# Altium footprint library PcbLib3.PcbLib: 23 footprints (part 1 of 2)
Each footprint in its own frame and in the unit in brackets; x right, y up, seen from the top. Pads: shape width x height; smd on the part's side, far side on the other; paste and mask are expansions set on the pad; w line width, h text height; cw(c..) or ccw(c..) is an arc to the next point about the centre after c.
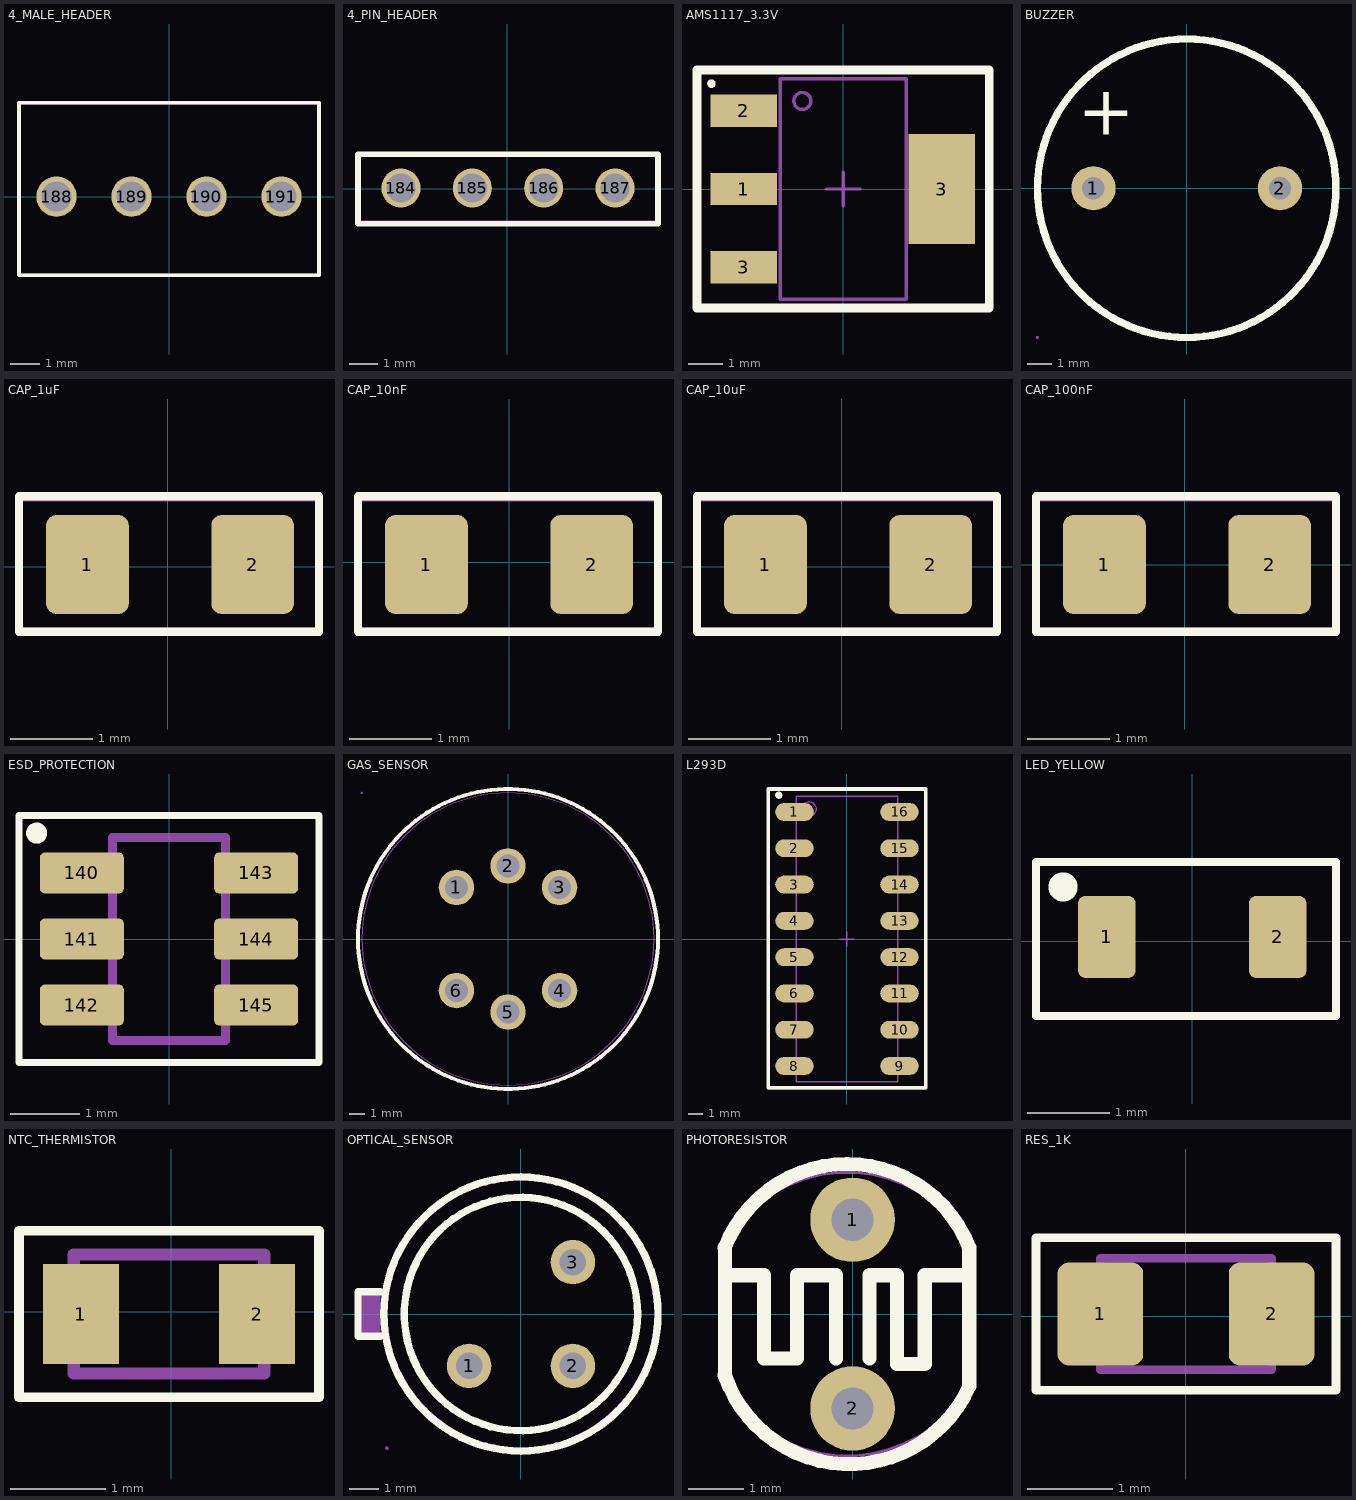
[diagram p0: the footprints below, top view; thin cyan lines are the x and y axes]

## 4_MALE_HEADER [mm]
pads (4):
  round 1.37 hole 1.02: 188(-3.81,0) 189(-1.27,0) 190(1.27,0) 191(3.81,0)
Top Overlay:
  lines w0.127: -5.08,-2.667 5.08,-2.667 5.08,3.18 -5.08,3.18 -5.08,-2.667
Top 3D Body:
  lines w0.127: -5.08,-2.54 -5.08,3.18 ; 5.08,-2.54 5.08,3.18 ; -5.08,3.18 5.08,3.18 ; -5.08,3.18 5.08,3.18 ; -5.08,3.18 -5.08,-2.667 5.08,-2.667 5.08,3.18
3D body "3-641215-4.STEP": height 9.53, standoff -4.06, extent -5.08,-2.667 5.08,3.175

## 4_PIN_HEADER [mm]
pads (4):
  round 1.39 hole 1.04: 184(-3.785,0.025) 185(-1.245,0.025) 186(1.295,0.025) 187(3.835,0.025)
Top Overlay:
  lines w0.2: -5.31,-1.245 -5.31,1.23 5.36,1.23 5.36,-1.245 -5.31,-1.245
Top Assembly:
  text ".Designator" at -7.493,-0.381 h1.52
Top 3D Body:
  lines w0.1: -5.31,-1.18 5.36,-1.18 ; -5.31,-1.18 -5.31,1.23 5.36,1.23 5.36,-1.18 ; -5.31,-1.18 5.36,-1.18
3D body "ESW-104-23-T-S-LL.stp": height 8.51, standoff -9.91, extent -5.309,-1.245 5.359,1.295

## AMS1117_3.3V [mm] "SOT223, 4-Leads, Body 6.48x7.00mm (avg), Pitch 2.30mm, IPC Medium Density"
height 6.7
pads (4):
  rect 1.95x0.95 smd: 1(-2.925,0) 2(-2.925,2.3) 3(-2.925,-2.3)
  rect 1.95x3.25 smd: 3(2.9,0)
Top Overlay:
  circle w0.125: c-3.875,3.1 r0.062
  lines w0.254: -4.3,-3.5 -4.3,3.5 -4.2,3.5 4.3,3.5 4.3,-3.5 -4.3,-3.5
Top Assembly:
  circle w0.1: c-1.2,2.59 r0.25
  lines w0.1: -1.85,-3.24 -1.85,3.24 1.85,3.24 1.85,-3.24 -1.85,-3.24
  text ".Designator" at -2.159,0.188 h1
Top Courtyard:
  lines w0.05: -4.25,-3.49 -4.25,3.49 4.25,3.49 4.25,-3.49 -4.25,-3.49
Top Component Center:
  lines w0.1: -0.5,0 0.5,0 ; 0,-0.5 0,0.5
3D body: height 1, standoff 0, extent -1.75,-3.24 1.75,3.24

## BUZZER [mil]
pads (2):
  round 70 hole 35.4: 1(-147.7,0) 2(147.6,0)
Top Overlay:
  lines w11.81: -236.2,0 -235.8,-13.8 -234.6,-27.4 -232.7,-41 -229.9,-54.5 -226.3,-67.8 -222,-80.8 -216.9,-93.6 -211.1,-106 -204.6,-118.1 -197.4,-129.8 -189.5,-141.1 -181,-151.9 -171.8,-162.1 -162.1,-171.8 -151.9,-181 -141.1,-189.5 -129.8,-197.4 -118.1,-204.6 -106,-211.1 -93.6,-216.9 -80.8,-222 -67.8,-226.3 -54.5,-229.9 -41,-232.7 -27.4,-234.6 -13.8,-235.8 0,-236.2 13.7,-235.8 27.4,-234.6 41,-232.7 54.5,-229.9 67.7,-226.3 80.8,-222 93.5,-216.9 106,-211.1 118.1,-204.6 129.8,-197.4 141,-189.5 151.8,-181 162.1,-171.8 171.8,-162.1 180.9,-151.9 189.5,-141.1 197.3,-129.8 204.6,-118.1 211.1,-106 216.9,-93.6 222,-80.8 226.3,-67.8 229.8,-54.5 232.6,-41 234.6,-27.4 235.8,-13.8 236.2,0 235.8,13.7 234.6,27.4 232.6,41 229.8,54.5 226.3,67.7 222,80.8 216.9,93.5 211.1,106 204.6,118.1 197.3,129.8 189.5,141 180.9,151.8 171.8,162.1 162.1,171.8 151.8,180.9 141,189.5 129.8,197.3 118.1,204.6 106,211.1 93.5,216.9 80.8,222 67.7,226.3 54.5,229.8 41,232.6 27.4,234.6 13.7,235.8 0,236.2 -13.8,235.8 -27.4,234.6 -41,232.6 -54.5,229.8 -67.8,226.3 -80.8,222 -93.6,216.9 -106,211.1 -118.1,204.6 -129.8,197.3 -141.1,189.5 -151.9,180.9 -162.1,171.8 -171.8,162.1 -181,151.8 -189.5,141 -197.4,129.8 -204.6,118.1 -211.1,106 -216.9,93.5 -222,80.8 -226.3,67.7 -229.9,54.5 -232.7,41 -234.6,27.4 -235.8,13.7 -236.2,0
  text "+" at -172.1,84.79 h78.7
Mechanical 6:
  lines w2: -236.2,0 cw(c0,0) 236.2,0 cw(c0,0) -236.2,0
Mechanical 8:
  region: -233.9,-236.2 -234.3,-237.5 -235.3,-238.4 -236.6,-238.6 -237.8,-238 -238.5,-236.9 -238.5,-235.6 -237.8,-234.5 -236.6,-233.9 -235.3,-234.1 -234.3,-235
Top Assembly:
  region: 159.4,0 159.1,-3 158,-5.7 156.2,-8.1 154,-10 151.3,-11.3 148.4,-11.8 145.4,-11.6 142.6,-10.7 140.1,-9.1 138.1,-7 136.6,-4.4 135.9,-1.5 135.9,1.5 136.6,4.3 138.1,6.9 140.1,9.1 142.6,10.7 145.4,11.6 148.4,11.8 151.3,11.2 154,10 156.2,8.1 158,5.7 159.1,2.9
  region: -135.8,0 -136.2,-3 -137.3,-5.7 -139,-8.1 -141.3,-10 -144,-11.3 -146.9,-11.8 -149.9,-11.6 -152.7,-10.7 -155.2,-9.1 -157.2,-7 -158.6,-4.4 -159.4,-1.5 -159.4,1.5 -158.6,4.3 -157.2,6.9 -155.2,9.1 -152.7,10.7 -149.9,11.6 -146.9,11.8 -144,11.2 -141.3,10 -139,8.1 -137.3,5.7 -136.2,2.9
  text ".Designator" at -275,-15.01 h60
3D body "CMI-1295IC-0585T--3DModel-STEP-1.STEP": height 354.33, standoff -236.22, extent -236.22,-236.22 236.22,235.75

## CAP_1uF [mm]
pads (2):
  rrect25% 1x1.2 smd: 1(-0.975,0.025) 2(1.025,0.025)
Top Overlay:
  lines w0.1: -1.804,-0.788 -1.804,0.85 1.828,0.85 1.828,0.825 1.828,-0.788 -1.804,-0.788
Top Assembly:
  lines w0.1: -1.804,-0.788 -1.804,0.838 1.828,0.838 1.828,-0.788 -1.804,-0.788
  text ".Designator" at -1.118,-0.078 h0.5
3D body: height 0.4, standoff 0, extent 0.533,-0.6 1.033,0.65
3D body: height 0.4, standoff 0, extent -0.975,-0.6 -0.475,0.65
3D body: height 0.4, standoff 0, extent -0.475,-0.6 0.525,0.65

## CAP_10nF [mm]
pads (2):
  rrect25% 1x1.2 smd: 1(-1,-0.025) 2(1,-0.025)
Top Overlay:
  lines w0.1: -1.829,-0.838 -1.829,0.8 1.803,0.8 1.803,0.775 1.803,-0.838 -1.829,-0.838
Top Assembly:
  lines w0.1: -1.829,-0.838 -1.829,0.788 1.803,0.788 1.803,-0.838 -1.829,-0.838
  text ".Designator" at -1.143,-0.128 h0.5
3D body: height 0.4, standoff 0, extent 0.508,-0.65 1.008,0.6
3D body: height 0.4, standoff 0, extent -1,-0.65 -0.5,0.6
3D body: height 0.4, standoff 0, extent -0.5,-0.65 0.5,0.6

## CAP_10uF [mm]
pads (2):
  rrect25% 1x1.2 smd: 1(-0.925,0.025) 2(1.075,0.025)
Top Overlay:
  lines w0.1: -1.754,-0.788 1.878,-0.788 1.878,0.825 1.878,0.85 -1.754,0.85 -1.754,-0.788
Top Assembly:
  lines w0.1: -1.754,-0.788 1.878,-0.788 1.878,0.838 -1.754,0.838 -1.754,-0.788
  text ".Designator" at -1.068,-0.078 h0.5
3D body: height 0.4, standoff 0, extent -0.425,-0.6 0.575,0.65
3D body: height 0.4, standoff 0, extent -0.925,-0.6 -0.425,0.65
3D body: height 0.4, standoff 0, extent 0.583,-0.6 1.083,0.65

## CAP_100nF [mm]
pads (2):
  rrect25% 1x1.2 smd: 1(-0.975,0) 2(1.025,0)
Top Overlay:
  lines w0.1: -1.804,-0.813 1.828,-0.813 1.828,0.8 1.828,0.825 -1.804,0.825 -1.804,-0.813
Top Assembly:
  lines w0.1: -1.804,-0.813 1.828,-0.813 1.828,0.813 -1.804,0.813 -1.804,-0.813
  text ".Designator" at -1.118,-0.103 h0.5
3D body: height 0.4, standoff 0, extent -0.475,-0.625 0.525,0.625
3D body: height 0.4, standoff 0, extent -0.975,-0.625 -0.475,0.625
3D body: height 0.4, standoff 0, extent 0.533,-0.625 1.033,0.625

## ESD_PROTECTION [mm]
pads (6):
  rrect25% 1.21x0.59 smd: 140(-1.255,0.95) 141(-1.255,0) 142(-1.255,-0.95) 143(1.255,0.95) 144(1.255,0) 145(1.255,-0.95)
Top Overlay:
  circle w0.2: c-1.905,1.524 r0.051
  lines w0.1: -2.159,-1.778 2.159,-1.778 2.159,1.778 -2.159,1.778 -2.159,-1.778
Top Assembly:
  text ".Designator" at -1.27,-0.032 h0.51
Top 3D Body:
  lines w0.127: -0.813,-1.462 0.813,-1.462 0.813,1.462 -0.813,1.462 -0.813,-1.462
3D body "step_temp.STEP": height 1.42, standoff -0.03, extent -1.4,-1.462 1.4,1.462

## GAS_SENSOR [mil]
pads (6):
  round 90.6 hole 59.1: 1(-132,132) 2(0,187) 3(132,132) 4(132,-132) 5(0,-187) 6(-132,-132)
Top Overlay:
  lines w10: -383.9,0 -383.5,17.5 -382.3,34.9 -380.3,52.3 -377.6,69.5 -374,86.6 -369.7,103.6 -364.6,120.3 -358.7,136.8 -352.1,152.9 -344.8,168.8 -336.8,184.3 -328,199.5 -318.6,214.2 -308.5,228.5 -297.8,242.3 -286.5,255.6 -274.5,268.4 -262,280.6 -249,292.2 -235.4,303.2 -221.4,313.6 -206.9,323.4 -192,332.5 -176.6,340.9 -160.9,348.5 -144.9,355.5 -128.6,361.7 -112,367.2 -95.1,371.9 -78.1,375.9 -60.9,379 -43.6,381.4 -26.2,383 -8.7,383.8 8.7,383.8 26.2,383 43.6,381.4 60.9,379 78.1,375.9 95.1,371.9 112,367.2 128.6,361.7 144.9,355.5 160.9,348.5 176.6,340.9 191.9,332.5 206.9,323.4 221.4,313.6 235.4,303.2 249,292.2 262,280.6 274.5,268.4 286.5,255.6 297.8,242.3 308.5,228.5 318.6,214.2 328,199.5 336.8,184.3 344.8,168.8 352.1,152.9 358.7,136.8 364.6,120.3 369.7,103.6 374,86.6 377.6,69.5 380.3,52.3 382.3,34.9 383.5,17.5 383.9,0 383.5,-17.5 382.3,-34.9 380.3,-52.3 377.6,-69.5 374,-86.6 369.7,-103.6 364.6,-120.3 358.7,-136.8 352.1,-152.9 344.8,-168.8 336.8,-184.3 328,-199.5 318.6,-214.2 308.5,-228.5 297.8,-242.3 286.5,-255.6 274.5,-268.4 262,-280.6 249,-292.2 235.4,-303.2 221.4,-313.6 206.9,-323.4 192,-332.5 176.6,-340.9 160.9,-348.5 144.9,-355.5 128.6,-361.7 112,-367.2 95.1,-371.9 78.1,-375.9 60.9,-379 43.6,-381.4 26.2,-383 8.7,-383.8 -8.7,-383.8 -26.2,-383 -43.6,-381.4 -60.9,-379 -78.1,-375.9 -95.1,-371.9 -112,-367.2 -128.6,-361.7 -144.9,-355.5 -160.9,-348.5 -176.6,-340.9 -191.9,-332.5 -206.9,-323.4 -221.4,-313.6 -235.4,-303.2 -249,-292.2 -262,-280.6 -274.5,-268.4 -286.5,-255.6 -297.8,-242.3 -308.5,-228.5 -318.6,-214.2 -328,-199.5 -336.8,-184.3 -344.8,-168.8 -352.1,-152.9 -358.7,-136.8 -364.6,-120.3 -369.7,-103.6 -374,-86.6 -377.6,-69.5 -380.3,-52.3 -382.3,-34.9 -383.5,-17.5 -383.9,0
Mechanical 6:
  lines w2: -374,0 ccw(c0,0) 374,0 ccw(c0,0) -374,0
Mechanical 8:
  region: -371.7,374 -372,372.7 -373,371.9 -374.4,371.7 -375.6,372.2 -376.3,373.4 -376.3,374.7 -375.6,375.8 -374.4,376.4 -373,376.2 -372,375.3
Top Assembly:
  drawing of 6 lines, arcs and shapes, not listed
  text ".Designator" at -300,-5.01 h60
3D body "MQ-7--3DModel-STEP-510211.STEP": height 584.65, standoff -301.18, extent -344.49,-344.49 344.49,344.49

## L293D [mm] "SOJ, 16-Leads, Body 20.00x8.80mm, Pitch 2.54mm, IPC Low Density"
height 8.4
pads (16):
  oval 2.7x1.25 smd: 1(-3.675,8.89) 2(-3.675,6.35) 3(-3.675,3.81) 4(-3.675,1.27) 5(-3.675,-1.27) 6(-3.675,-3.81) 7(-3.675,-6.35) 8(-3.675,-8.89) 9(3.675,-8.89) 10(3.675,-6.35) 11(3.675,-3.81) 12(3.675,-1.27) 13(3.675,1.27) 14(3.675,3.81) 15(3.675,6.35) 16(3.675,8.89)
Top Overlay:
  circle w0.25: c-4.775,10.065 r0.125
  lines w0.254: -5.5,-10.4 5.5,-10.4 5.5,10.5 -5.5,10.5 -5.5,-10.4
Top Assembly:
  circle w0.1: c-2.65,9.1 r0.5
  lines w0.1: -3.55,-10 3.55,-10 3.55,10 -3.55,10 -3.55,-10
  text ".Designator" at -2.413,-0.066 h1
Top Courtyard:
  lines w0.05: -5.525,-10.5 5.525,-10.5 5.525,10.5 -5.525,10.5 -5.525,-10.5
Top Component Center:
  lines w0.1: -0.5,0 0.5,0 ; 0,-0.5 0,0.5
3D body: height 2.5, standoff 0, extent -3.55,-10 3.55,10

## LED_YELLOW [mm]
pads (2):
  rrect25% 0.7x1 smd: 1(-1.041,0.051) 2(1.041,0.051)
Top Overlay:
  circle w0.254: c-1.575,0.66 r0.051
  lines w0.1: -1.905,-0.914 -1.905,0.965 -1.829,0.965 1.753,0.965 1.753,-0.914 -1.905,-0.914
Top Assembly:
  text ".Designator" at -1.829,-0.135 h0.8
3D body "APT2012LZGCK--3DModel-STEP-510211.STEP": height 0.75, standoff 0, extent -0.975,-0.574 1.025,0.676

## NTC_THERMISTOR [mm]
pads (2):
  rect 0.8x1.05 smd: 1(-0.95,-0.025) 2(0.9,-0.025)
Top Overlay:
  lines w0.1: -1.6,-0.9 -1.6,0.85 1.55,0.85 1.55,-0.9 -1.6,-0.9
Top Assembly:
  text ".Designator" at -1.575,-0.194 h0.7
Top 3D Body:
  lines w0.127: -1.025,-0.65 0.975,-0.65 0.975,0.6 -1.025,0.6 -1.025,-0.65
Top Courtyard:
  lines w0.05: -1.6,-0.9 1.55,-0.9 1.55,0.85 -1.6,0.85 -1.6,-0.9
3D body "step_temp.STEP": height 1.3, standoff 0, extent -1.025,-0.625 0.975,0.575

## OPTICAL_SENSOR [mil]
pads (3):
  round 60 hole 36: 1(-70,-70) 2(70,-70) 3(70,70)
Top Overlay:
  drawing of 188 lines, arcs and shapes, not listed
Mechanical 2:
  region: -190,30 -190,-30 -220,-30 -220,30
Mechanical 6:
  lines w2: -181.1,0 cw(c0,0) 181.1,0 cw(c0,0) -181.1,0
Mechanical 8:
  region: -178.7,-181.1 -179.1,-182.3 -180.1,-183.2 -181.4,-183.4 -182.6,-182.8 -183.4,-181.7 -183.4,-180.4 -182.6,-179.3 -181.4,-178.7 -180.1,-178.9 -179.1,-179.8
Top Assembly:
  region: 78.9,70 78.5,67.4 77.3,65.1 75.5,63.1 73.2,61.8 70.7,61.2 68,61.4 65.6,62.4 63.5,64 62,66.2 61.2,68.7 61.2,71.4 62,73.9 63.5,76.1 65.6,77.7 68,78.7 70.7,78.9 73.2,78.3 75.5,77 77.3,75 78.5,72.7
  region: 78.9,-70 78.5,-72.6 77.3,-74.9 75.5,-76.9 73.2,-78.2 70.7,-78.8 68,-78.6 65.6,-77.6 63.5,-76 62,-73.8 61.2,-71.3 61.2,-68.6 62,-66.1 63.5,-63.9 65.6,-62.3 68,-61.3 70.7,-61.1 73.2,-61.7 75.5,-63 77.3,-65 78.5,-67.3
  region: -61.1,-70 -61.5,-72.6 -62.7,-74.9 -64.5,-76.9 -66.8,-78.2 -69.3,-78.8 -72,-78.6 -74.4,-77.6 -76.5,-76 -78,-73.8 -78.8,-71.3 -78.8,-68.6 -78,-66.1 -76.5,-63.9 -74.4,-62.3 -72,-61.3 -69.3,-61.1 -66.8,-61.7 -64.5,-63 -62.7,-65 -61.5,-67.3
  text ".Designator" at -219.33,-12.31 h39.37
3D body "IRA-S210ST01--3DModel-STEP-56544.STEP": height 192.91, standoff -610.24, extent -220.06,-182.09 183.07,180.12

## PHOTORESISTOR [mil]
pads (2):
  round 60 hole 30: 1(0,66.9) 2(0,-66.9)
Top Overlay:
  lines w10: -90.6,-43.3 -87.4,-51.3 -83.6,-58.9 -79,-66.2 -73.8,-73 -68,-79.3 -61.7,-85.1 -54.8,-90.2 -47.5,-94.7 -39.8,-98.5 -31.8,-101.6 -23.6,-104 -15.1,-105.5 -6.6,-106.3 2,-106.3 10.5,-105.5 18.9,-103.9 27.2,-101.6 35.2,-98.5 42.9,-94.7 50.2,-90.2 57,-85 63.4,-79.3 69.2,-73 74.4,-66.1 78.9,-58.9 82.7,-51.2 82.7,47.2 79.3,55 75.1,62.5 70.2,69.6 64.7,76.2 58.6,82.2 52,87.7 45,92.5 37.5,96.7 29.6,100.1 21.5,102.8 13.1,104.8 4.7,106 -3.9,106.4 -12.5,106 -21,104.8 -29.3,102.8 -37.4,100.1 -45.3,96.7 -52.8,92.5 -59.8,87.7 -66.4,82.2 -72.5,76.2 -78,69.6 -82.9,62.5 -87.1,55 -90.6,47.2 ; -90.5,-43.3 -90.5,47.2 ; -90.5,27.5 -62.9,27.5 -62.9,-31.5 -39.3,-31.5 -39.3,27.5 -11.8,27.5 -11.8,-31.5 ; 11.9,-31.5 11.9,27.5 31.5,27.5 31.5,-35.5 51.2,-35.5 51.2,27.5 82.7,27.5
Mechanical 6:
  lines w2: -88.5,-48.4 -88.1,-52 -87,-55.9 -84.6,-59.5 -76.7,-69.3 -67.7,-77.6 -57.4,-85.1 -46.4,-91 -34.6,-95.7 -22.4,-98.8 -10.2,-100.4 2.4,-100.4 14.6,-98.8 26.8,-95.7 38.6,-91 49.7,-85.1 55.6,-80.7 59.9,-77.6 68.9,-69.3 76.8,-59.5 79.2,-55.9 80.4,-52 80.8,-48.1 80.8,48 80.4,51.9 79.2,55.9 76.8,59.4 68.9,69.3 59.9,77.5 49.7,85 38.6,90.9 26.8,95.6 14.6,98.8 2.4,100.4 -10.2,100.4 -22.4,98.8 -34.6,95.6 -46.4,90.9 -57.4,85 -67.7,77.5 -76.7,69.3 -84.6,59.4 -87,55.9 -88.1,51.9 -88.5,48 -88.5,-48.4
Top Assembly:
  region: 9.9,66.9 9.5,64.3 8.5,61.8 6.8,59.7 4.6,58.2 2,57.3 -0.6,57.1 -3.3,57.6 -5.6,58.9 -7.6,60.7 -9,63 -9.7,65.6 -9.7,68.3 -9,70.8 -7.6,73.1 -5.6,75 -3.3,76.2 -0.6,76.7 2,76.5 4.6,75.6 6.8,74.1 8.5,72 9.5,69.6
  region: 9.9,-66.9 9.5,-69.6 8.5,-72.1 6.8,-74.1 4.6,-75.7 2,-76.6 -0.6,-76.8 -3.3,-76.2 -5.6,-75 -7.6,-73.2 -9,-70.9 -9.7,-68.3 -9.7,-65.6 -9,-63 -7.6,-60.7 -5.6,-58.9 -3.3,-57.7 -0.6,-57.1 2,-57.3 4.6,-58.2 6.8,-59.8 8.5,-61.8 9.5,-64.3
  text ".Designator" at -94.49,-8.36 h39.37
3D body "PDV-P2002.STEP": height 93.7, standoff -1023.62, extent -84.45,-100.98 84.45,99.02

## RES_1K [mm]
pads (2):
  rrect25% 1x1.2 smd: 1(-0.997,0.028) 2(1.003,0.028)
Top Overlay:
  lines w0.1: -1.75,-0.861 1.755,-0.861 1.755,0.917 -1.75,0.917 -1.75,-0.861
Top Assembly:
  lines w0.1: -0.997,-0.622 1.003,-0.622 1.003,0.678 -0.997,0.678 -0.997,-0.622
  text ".Designator" at -1.547,-0.122 h0.7
Top Courtyard:
  lines w0.05: -1.747,-0.872 1.753,-0.872 1.753,0.928 -1.747,0.928 -1.747,-0.872
3D body: height 0.5, standoff 0, extent 0.603,-0.622 1.003,0.678
3D body: height 0.5, standoff 0, extent -0.997,-0.622 -0.597,0.678
3D body: height 0.5, standoff 0, extent -0.597,-0.622 0.603,0.678